# Altium footprint library PCB1_1.PcbLib: 64 footprints (part 4 of 4)
Each footprint in its own frame and in the unit in brackets; x right, y up, seen from the top. Pads: shape width x height; smd on the part's side, far side on the other; paste and mask are expansions set on the pad; w line width, h text height; cw(c..) or ccw(c..) is an arc to the next point about the centre after c.
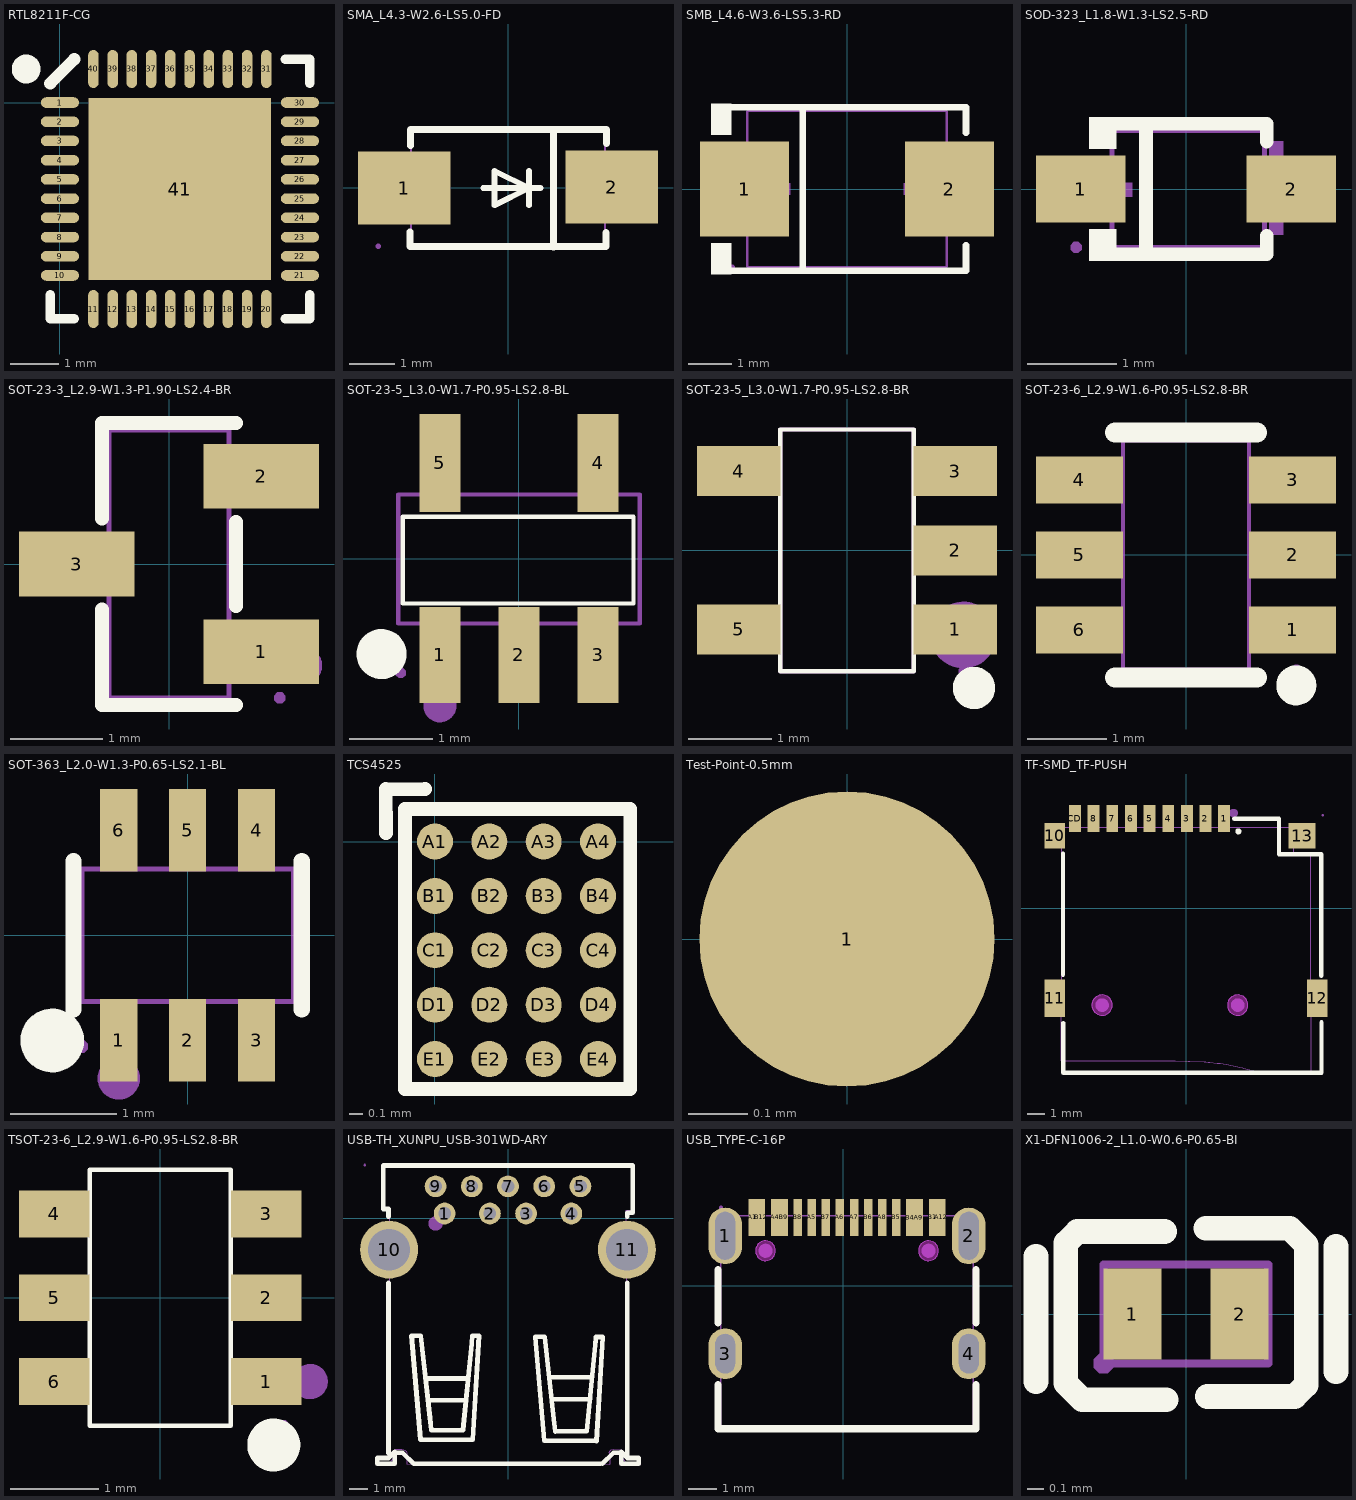
[diagram p3: the footprints below, top view; thin cyan lines are the x and y axes]

## RTL8211F-CG [mm]
pads (41):
  oval 0.794x0.22 smd: 1(0,0) 2(0,-0.401) 3(0,-0.8) 4(0,-1.201) 5(0,-1.6) 6(0,-2.002) 7(0,-2.4) 8(0,-2.802) 9(0,-3.2) 10(0,-3.602) 21(4.999,-3.602) 22(4.999,-3.2) 23(4.999,-2.802) 24(4.999,-2.4) 25(4.999,-2.002) 26(4.999,-1.6) 27(4.999,-1.201) 28(4.999,-0.8) 29(4.999,-0.401) 30(4.999,0)
  oval 0.22x0.794 smd: 11(0.699,-4.3) 12(1.1,-4.3) 13(1.499,-4.3) 14(1.9,-4.3) 15(2.299,-4.3) 16(2.7,-4.3) 17(3.099,-4.3) 18(3.5,-4.3) 19(3.899,-4.3) 20(4.3,-4.3) 31(4.3,0.698) 32(3.899,0.698) 33(3.5,0.698) 34(3.099,0.698) 35(2.7,0.698) 36(2.299,0.698) 37(1.9,0.698) 38(1.499,0.698) 39(1.1,0.698) 40(0.699,0.698)
  rect 3.8x3.8 smd: 41(2.499,-1.801)
Top Overlay:
  lines w0.2: -0.201,-4.001 -0.201,-4.501 0.299,-4.501 ; 4.699,-4.501 5.199,-4.501 5.199,-4.001 ; 4.699,0.899 5.199,0.899 5.199,0.399
  lines w0.254: -0.201,0.399 0.299,0.899
  lines w0.3: -0.551,0.696 cw(c-0.701,0.697) -0.551,0.698
Top Paste:
  region: 2.199,-1.601 2.199,-1.101 2.699,-1.101 2.699,-1.601
  region: 2.199,-2.401 2.199,-1.901 2.699,-1.901 2.699,-2.401
  region: 1.399,-1.601 1.399,-1.101 1.899,-1.101 1.899,-1.601
  region: 1.399,-2.401 1.399,-1.901 1.899,-1.901 1.899,-2.401
  region: 1.399,-0.801 1.399,-0.301 1.899,-0.301 1.899,-0.801
  region: 2.199,-0.801 2.199,-0.301 2.699,-0.301 2.699,-0.801
  region: 2.999,-0.801 2.999,-0.301 3.499,-0.301 3.499,-0.801
  region: 2.999,-1.601 2.999,-1.101 3.499,-1.101 3.499,-1.601
  region: 2.999,-2.401 2.999,-1.901 3.499,-1.901 3.499,-2.401
Mechanical 13:
  lines w0.013: 2.672,-1.775 2.723,-1.826
3D body "WQFN-40_L5.0-W5.0-P0.4-BL-EP.step": height 0.78, standoff 0.02, extent -0.011,-4.311 5.009,0.709

## SMA_L4.3-W2.6-LS5.0-FD [mm]
pads (2):
  rect 2.046x1.62 smd: 1(-2.304,-0.009) 2(2.304,0.009)
Top Overlay:
  lines w0.127: -0.551,-0.01 0.719,-0.01 ; 0.465,-0.391 0.465,-0.01 ; 0.465,0.371 0.465,-0.01 ; 0.465,-0.01 -0.297,0.371 -0.297,-0.01 -0.297,-0.391 0.465,-0.01
  lines w0.152: -2.17,-0.979 -2.17,-1.309 2.177,-1.309 2.177,-0.998 ; -2.16,0.93 -2.16,1.288 2.186,1.288 2.186,0.977 ; 1.007,-1.321 1.007,1.276
Mechanical 4:
  region: 2.432,0.097 2.432,-0.097 1.659,-0.097 1.659,0.097
  region: -2.432,0.097 -2.432,-0.097 -1.659,-0.097 -1.659,0.097
  region: -2.142,0.644 -2.142,-0.644 -1.949,-0.644 -1.949,0.644
Mechanical 5:
  lines w0.051: -2.15,-1.3 2.15,-1.3 2.15,1.3 -2.15,1.3 -2.15,-1.3
Mechanical 6:
  region: -2.879,-1.24 -2.854,-1.24 -2.819,-1.275 -2.819,-1.325 -2.854,-1.36 -2.879,-1.36 -2.904,-1.36 -2.939,-1.325 -2.939,-1.275 -2.904,-1.24 -2.879,-1.24
Mechanical 7:
  region: -2.5,-0.734 -2.5,0.716 -1.35,0.716 -1.35,-0.734
  region: 2.5,0.734 2.5,-0.716 1.35,-0.716 1.35,0.734
3D body "SMA.STEP": height 2.15, standoff 0.04, extent -2.548,-1.309 2.555,1.291

## SMB_L4.6-W3.6-LS5.3-RD [mil]
pads (2):
  rect 80.61x86.31 smd: 1(-92.94,0) 2(92.94,0)
Top Overlay:
  region: -105.02,77.26 -105.02,49.16 -123.02,49.16 -123.02,77.26
  region: -105.02,-77.26 -105.02,-49.16 -123.02,-49.16 -123.02,-77.26
  lines w5.98: -40,-74.26 -40,74.26
  lines w6: -108.02,-74.26 108.02,-74.26 108.02,-51.16 ; -108.02,74.26 108.02,74.26 108.02,51.16
Mechanical 4:
  region: -94.33,-5.34 -94.33,5.34 -51.58,5.34 -51.58,-5.34
  region: 94.33,-5.34 94.33,5.34 51.58,5.34 51.58,-5.34
  region: 78.3,-35.63 78.3,35.63 67.61,35.63 67.61,-35.63
Mechanical 5:
  lines w2: -90.55,-70.87 -90.55,70.87 90.55,70.87 90.55,-70.87 -90.55,-70.87
Mechanical 6:
  region: -106.67,-70.87 -106.67,-69.89 -105.29,-68.51 -103.33,-68.51 -101.95,-69.89 -101.95,-70.87 -101.95,-71.85 -103.33,-73.23 -105.29,-73.23 -106.67,-71.85 -106.67,-70.87
Mechanical 7:
  region: -104.31,-39.96 -104.31,39.96 -59.43,39.96 -59.43,-39.96
  region: 104.31,-39.96 104.31,39.96 59.43,39.96 59.43,-39.96
3D body "SMB.STEP": height 92.52, standoff 1.73, extent -104.4,-70.86 104.38,70.87

## SOD-323_L1.8-W1.3-LS2.5-RD [mm]
pads (2):
  rect 1x0.75 smd: 1(-1.173,0) 2(1.173,0)
Top Overlay:
  region: -0.775,0.802 -0.775,0.45 -1.08,0.45 -1.08,0.802
  region: -0.775,-0.802 -0.775,-0.45 -1.08,-0.45 -1.08,-0.802
  lines w0.152: -0.851,-0.726 0.901,-0.726 0.901,-0.52 ; -0.851,0.726 0.901,0.726 0.901,0.53 ; -0.447,-0.726 -0.447,0.726
Mechanical 4:
  region: -1.225,0.07 -1.225,-0.086 -0.601,-0.086 -0.601,0.07
  region: 1.315,0.09 1.315,-0.066 0.691,-0.066 0.691,0.09
  region: 1.083,0.53 1.083,-0.51 0.927,-0.51 0.927,0.53
Mechanical 5:
  lines w0.051: -0.825,-0.65 0.875,-0.65 0.875,0.65 -0.825,0.65 -0.825,-0.65
Mechanical 6:
  region: -1.285,-0.65 -1.285,-0.675 -1.25,-0.71 -1.2,-0.71 -1.165,-0.675 -1.165,-0.65 -1.165,-0.625 -1.2,-0.59 -1.25,-0.59 -1.285,-0.625 -1.285,-0.65
Mechanical 7:
  region: 1.275,0.16 1.275,-0.16 0.975,-0.16 0.975,0.16
  region: -0.925,0.16 -0.925,-0.16 -1.225,-0.16 -1.225,0.16
Mechanical 8:
  region: 0.985,0.16 0.985,-0.16 0.865,-0.16 0.865,0.16
  region: -0.815,0.16 -0.815,-0.16 -0.935,-0.16 -0.935,0.16
3D body "SOD-323.STEP": height 1, standoff 0.04, extent -1.324,-0.64 1.324,0.66

## SOT-23-3_L2.9-W1.3-P1.90-LS2.4-BR [mm]
pads (3):
  rect 1.25x0.7 smd paste+0 mask+0.051: 1(1,-0.95) 2(1,0.95) 3(-1,0)
Top Overlay:
  lines w0.152: -0.726,-0.495 -0.726,-1.526 0.726,-1.526 ; -0.726,0.495 -0.726,1.526 0.726,1.526 ; 0.726,-0.455 0.726,0.455
Mechanical 4:
  circle w0.2: c1.46,-1.1 r0.1
Mechanical 5:
  lines w0.051: -0.65,-1.45 -0.65,1.45 0.65,1.45 0.65,-1.45 -0.65,-1.45
Mechanical 6:
  region: 1.2,-1.51 1.225,-1.51 1.26,-1.475 1.26,-1.425 1.225,-1.39 1.2,-1.39 1.175,-1.39 1.14,-1.425 1.14,-1.475 1.175,-1.51 1.2,-1.51
Mechanical 7:
  region: 0.9,0.735 0.9,1.165 1.2,1.165 1.2,0.735
  region: 0.9,-1.165 0.9,-0.735 1.2,-0.735 1.2,-1.165
  region: -1.2,-0.215 -1.2,0.215 -0.9,0.215 -0.9,-0.215
Mechanical 8:
  region: 0.64,0.735 0.64,1.165 0.91,1.165 0.91,0.735
  region: 0.64,-1.165 0.64,-0.735 0.91,-0.735 0.91,-1.165
  region: -0.91,-0.215 -0.91,0.215 -0.64,0.215 -0.64,-0.215
3D body "SOT23-3.STEP": height 1.05, standoff 0, extent -1.2,-1.5 1.2,1.5

## SOT-23-5_L3.0-W1.7-P0.95-LS2.8-BL [mm]
pads (5):
  rect 0.49x1.157 smd paste+0 mask+0.051: 1(-0.95,-1.154) 2(0,-1.154) 3(0.95,-1.154)
  rect 0.49x1.175 smd paste+0 mask+0.051: 4(0.95,1.154) 5(-0.95,1.154)
Top Overlay:
  circle w0.3: c-1.651,-1.143 r0.15
  lines w0.051: -1.397,-0.534 1.376,-0.534 1.376,0.508 -1.397,0.508 -1.397,-0.534
Mechanical 4:
  circle w0.2: c-0.95,-1.763 r0.1
Mechanical 5:
  lines w0.051: -1.45,-0.775 1.45,-0.775 1.45,0.775 -1.45,0.775 -1.45,-0.775
Mechanical 6:
  region: -1.36,-1.37 -1.36,-1.395 -1.395,-1.43 -1.445,-1.43 -1.48,-1.395 -1.48,-1.37 -1.48,-1.345 -1.445,-1.31 -1.395,-1.31 -1.36,-1.345 -1.36,-1.37
Mechanical 7:
  region: -1.125,1 -1.125,1.4 -0.775,1.4 -0.775,1
  region: 0.775,1 0.775,1.4 1.125,1.4 1.125,1
  region: 0.775,-1.4 0.775,-1 1.125,-1 1.125,-1.4
  region: -0.175,-1.4 -0.175,-1 0.175,-1 0.175,-1.4
  region: -1.125,-1.4 -1.125,-1 -0.775,-1 -0.775,-1.4
Mechanical 8:
  region: -1.125,0.74 -1.125,1.01 -0.775,1.01 -0.775,0.74
  region: 0.775,0.74 0.775,1.01 1.125,1.01 1.125,0.74
  region: 0.775,-1.01 0.775,-0.74 1.125,-0.74 1.125,-1.01
  region: -0.175,-1.01 -0.175,-0.74 0.175,-0.74 0.175,-1.01
  region: -1.125,-1.01 -1.125,-0.74 -0.775,-0.74 -0.775,-1.01
3D body "SOT23-5.STEP": height 1.15, standoff -0.03, extent -1.5,-1.403 1.5,1.403

## SOT-23-5_L3.0-W1.7-P0.95-LS2.8-BR [mm]
pads (5):
  rect 1x0.6 smd paste+0 mask+0.051: 1(1.3,-0.95) 2(1.3,0) 3(1.3,0.95) 4(-1.3,0.95) 5(-1.3,-0.95)
Top Overlay:
  circle w0.254: c1.524,-1.651 r0.127
  lines w0.051: -0.8,-1.45 0.8,-1.45 0.8,1.45 -0.8,1.45 -0.8,-1.45
Mechanical 4:
  circle w0.4: c1.397,-1.016 r0.2
Mechanical 5:
  lines w0.051: -0.8,-1.45 0.8,-1.45 0.8,1.45 -0.8,1.45 -0.8,-1.45
Mechanical 6:
  region: 1.46,-1.45 1.46,-1.475 1.425,-1.51 1.375,-1.51 1.34,-1.475 1.34,-1.45 1.34,-1.425 1.375,-1.39 1.425,-1.39 1.46,-1.425 1.46,-1.45
Mechanical 7:
  region: 0.95,-1.15 0.95,-0.75 1.4,-0.75 1.4,-1.15
  region: 0.95,-0.2 0.95,0.2 1.4,0.2 1.4,-0.2
  region: 0.95,0.75 0.95,1.15 1.4,1.15 1.4,0.75
  region: -1.4,0.75 -1.4,1.15 -0.95,1.15 -0.95,0.75
  region: -1.4,-1.15 -1.4,-0.75 -0.95,-0.75 -0.95,-1.15
Mechanical 8:
  region: 0.79,-1.15 0.79,-0.75 0.96,-0.75 0.96,-1.15
  region: 0.79,-0.2 0.79,0.2 0.96,0.2 0.96,-0.2
  region: 0.79,0.75 0.79,1.15 0.96,1.15 0.96,0.75
  region: -0.96,0.75 -0.96,1.15 -0.79,1.15 -0.79,0.75
  region: -0.96,-1.15 -0.96,-0.75 -0.79,-0.75 -0.79,-1.15
3D body "SOT23-5.STEP": height 1.15, standoff -0.03, extent -1.403,-1.5 1.403,1.5

## SOT-23-6_L2.9-W1.6-P0.95-LS2.8-BR [mm]
pads (6):
  rect 1.1x0.6 smd paste+0 mask+0.051: 1(1.35,-0.95) 2(1.35,0) 3(1.35,0.95) 4(-1.35,0.95) 5(-1.35,0) 6(-1.35,-0.95)
Top Overlay:
  circle w0.254: c1.397,-1.651 r0.127
  lines w0.254: -0.9,-1.55 0.9,-1.55 ; -0.9,1.55 0.9,1.55
Mechanical 4:
  circle w0.2: c1.4,-0.95 r0.1
Mechanical 5:
  lines w0.051: -0.8,-1.45 -0.8,1.45 0.8,1.45 0.8,-1.45 -0.8,-1.45
Mechanical 6:
  region: 1.34,-1.45 1.34,-1.425 1.375,-1.39 1.425,-1.39 1.46,-1.425 1.46,-1.45 1.46,-1.475 1.425,-1.51 1.375,-1.51 1.34,-1.475 1.34,-1.45
Mechanical 7:
  region: -0.925,-1.165 -0.925,-0.735 -1.4,-0.735 -1.4,-1.165
  region: -0.925,-0.215 -0.925,0.215 -1.4,0.215 -1.4,-0.215
  region: -0.925,0.735 -0.925,1.165 -1.4,1.165 -1.4,0.735
  region: 0.925,0.735 0.925,1.165 1.4,1.165 1.4,0.735
  region: 0.925,-0.215 0.925,0.215 1.4,0.215 1.4,-0.215
  region: 0.925,-1.165 0.925,-0.735 1.4,-0.735 1.4,-1.165
Mechanical 8:
  region: -0.935,0.735 -0.935,1.165 -0.79,1.165 -0.79,0.735
  region: -0.935,-0.215 -0.935,0.215 -0.79,0.215 -0.79,-0.215
  region: -0.935,-1.165 -0.935,-0.735 -0.79,-0.735 -0.79,-1.165
  region: 0.935,-0.735 0.935,-1.165 0.79,-1.165 0.79,-0.735
  region: 0.935,0.215 0.935,-0.215 0.79,-0.215 0.79,0.215
  region: 0.935,1.165 0.935,0.735 0.79,0.735 0.79,1.165
3D body "sot236.step": height 1, standoff 0, extent -1.17,-1.46 1.17,1.46

## SOT-363_L2.0-W1.3-P0.65-LS2.1-BL [mm]
pads (6):
  rect 0.35x0.78 smd: 1(-0.65,-0.99) 2(0,-0.99) 3(0.65,-0.99) 4(0.65,0.99) 5(0,0.99) 6(-0.65,0.99)
Top Overlay:
  circle w0.3: c-1.277,-0.992 r0.15
  lines w0.152: -1.076,-0.701 -1.076,0.701 ; 1.076,-0.701 1.076,0.701
Mechanical 4:
  circle w0.2: c-0.65,-1.35 r0.1
Mechanical 5:
  lines w0.051: -1,-0.625 1,-0.625 1,0.625 -1,0.625 -1,-0.625
Mechanical 6:
  region: -1,-0.99 -0.975,-0.99 -0.94,-1.025 -0.94,-1.075 -0.975,-1.11 -1,-1.11 -1.025,-1.11 -1.06,-1.075 -1.06,-1.025 -1.025,-0.99 -1,-0.99
Mechanical 7:
  region: -0.775,-0.75 -0.525,-0.75 -0.525,-1.05 -0.775,-1.05
  region: -0.125,-0.75 0.125,-0.75 0.125,-1.05 -0.125,-1.05
  region: 0.525,-0.75 0.775,-0.75 0.775,-1.05 0.525,-1.05
  region: 0.525,0.75 0.775,0.75 0.775,1.05 0.525,1.05
  region: -0.125,0.75 0.125,0.75 0.125,1.05 -0.125,1.05
  region: -0.775,0.75 -0.525,0.75 -0.525,1.05 -0.775,1.05
Mechanical 8:
  region: -0.775,-0.615 -0.525,-0.615 -0.525,-0.76 -0.775,-0.76
  region: -0.125,-0.615 0.125,-0.615 0.125,-0.76 -0.125,-0.76
  region: 0.525,-0.615 0.775,-0.615 0.775,-0.76 0.525,-0.76
  region: 0.525,0.76 0.775,0.76 0.775,0.615 0.525,0.615
  region: -0.125,0.76 0.125,0.76 0.125,0.615 -0.125,0.615
  region: -0.775,0.76 -0.525,0.76 -0.525,0.615 -0.775,0.615
3D body "SOT-363_L2.1-W1.3-P0.65-LS2.2-BL.step": height 0.4, standoff -0.55, extent -1.025,-1.1 1.025,1.1

## TCS4525 [mm]
pads (20):
  round 0.265 smd: A1(0,0) A2(0.4,0) A3(0.8,0) A4(1.2,0) B1(0,-0.4) B2(0.4,-0.4) B3(0.8,-0.4) B4(1.2,-0.4) C1(0,-0.8) C2(0.4,-0.8) C3(0.8,-0.8) C4(1.2,-0.8) D1(0,-1.2) D2(0.4,-1.2) D3(0.8,-1.2) D4(1.2,-1.2) E1(0,-1.6) E2(0.4,-1.6) E3(0.8,-1.6) E4(1.2,-1.6)
Top Overlay:
  lines w0.102: -0.361,0.387 -0.361,0.064 ; -0.346,0.385 -0.074,0.387 ; -0.221,-1.817 -0.221,-1.82 ; 1.437,0.237 1.437,0.24 ; -0.221,-1.82 -0.221,0.24 1.437,0.24 ; -0.221,-1.82 1.437,-1.82 1.437,0.24
3D body "DSBGA-20_L2.1-W1.7-R4-C5-P0.40-BL.step": height 0.43, standoff -0.18, extent -0.242,-1.82 1.458,0.24

## Test-Point-0.5mm [mm]
pads (1):
  round 0.5 smd: 1(0,0)

## TF-SMD_TF-PUSH [mm]
pads (13):
  rect 0.7x1.6 smd: 1(2.25,5.3) 2(1.15,5.3) 3(0.05,5.3) 4(-1.05,5.3) 5(-2.15,5.3) 6(-3.25,5.3) 7(-4.35,5.3) 8(-5.45,5.3) CD(-6.55,5.3)
  rect 1.2x1.5 smd: 10(-7.75,4.3)
  rect 1.2x2.2 smd: 11(-7.75,-5.3) 12(7.75,-5.3)
  rect 1.6x1.5 smd: 13(6.85,4.3)
Top Overlay:
  circle w0.254: c3.087,4.552 r0.052
  lines w0.254: -7.26,-3.91 -7.26,3.25 ; -7.24,-6.76 -7.24,-9.7 8,-9.7 8,-6.71 ; 2.85,5.3 4.702,5.3 5.489,5.3 5.489,3.199 5.5,3.2 ; 5.49,3.2 7.98,3.2 7.98,-3.969
Keep-Out Layer:
  board cut-out: 3.65,-5.7 3.65,-5.819 3.559,-6.04 3.39,-6.209 3.169,-6.3 2.931,-6.3 2.71,-6.209 2.541,-6.04 2.45,-5.819 2.45,-5.7 2.45,-5.581 2.541,-5.36 2.71,-5.191 2.931,-5.1 3.169,-5.1 3.39,-5.191 3.559,-5.36 3.65,-5.581 3.65,-5.7
  board cut-out: -4.35,-5.7 -4.35,-5.819 -4.441,-6.04 -4.61,-6.209 -4.831,-6.3 -5.069,-6.3 -5.29,-6.209 -5.459,-6.04 -5.55,-5.819 -5.55,-5.7 -5.55,-5.581 -5.459,-5.36 -5.29,-5.191 -5.069,-5.1 -4.831,-5.1 -4.61,-5.191 -4.441,-5.36 -4.35,-5.581 -4.35,-5.7
Keep-Out Layer:
  circle w0.003: c3.05,-5.7 r0.6
  circle w0.003: c-4.95,-5.7 r0.6
  region: 3.65,-5.7 3.641,-5.804 3.614,-5.905 3.57,-6 3.51,-6.086 3.436,-6.16 3.35,-6.22 3.255,-6.264 3.154,-6.291 3.05,-6.3 2.946,-6.291 2.845,-6.264 2.75,-6.22 2.664,-6.16 2.59,-6.086 2.53,-6 2.486,-5.905 2.459,-5.804 2.45,-5.7 2.459,-5.596 2.486,-5.495 2.53,-5.4 2.59,-5.314 2.664,-5.24 2.75,-5.18 2.845,-5.136 2.946,-5.109 3.05,-5.1 3.154,-5.109 3.255,-5.136 3.35,-5.18 3.436,-5.24 3.51,-5.314 3.57,-5.4 3.614,-5.495 3.641,-5.596
  region: 3.65,-5.7 3.65,-5.819 3.559,-6.04 3.39,-6.209 3.169,-6.3 2.931,-6.3 2.71,-6.209 2.541,-6.04 2.45,-5.819 2.45,-5.7 2.45,-5.581 2.541,-5.36 2.71,-5.191 2.931,-5.1 3.169,-5.1 3.39,-5.191 3.559,-5.36 3.65,-5.581 3.65,-5.7
  region: -4.35,-5.7 -4.359,-5.804 -4.386,-5.905 -4.43,-6 -4.49,-6.086 -4.564,-6.16 -4.65,-6.22 -4.745,-6.264 -4.846,-6.291 -4.95,-6.3 -5.054,-6.291 -5.155,-6.264 -5.25,-6.22 -5.336,-6.16 -5.41,-6.086 -5.47,-6 -5.514,-5.905 -5.541,-5.804 -5.55,-5.7 -5.541,-5.596 -5.514,-5.495 -5.47,-5.4 -5.41,-5.314 -5.336,-5.24 -5.25,-5.18 -5.155,-5.136 -5.054,-5.109 -4.95,-5.1 -4.846,-5.109 -4.745,-5.136 -4.65,-5.18 -4.564,-5.24 -4.49,-5.314 -4.43,-5.4 -4.386,-5.495 -4.359,-5.596
  region: -4.35,-5.7 -4.35,-5.819 -4.441,-6.04 -4.61,-6.209 -4.831,-6.3 -5.069,-6.3 -5.29,-6.209 -5.459,-6.04 -5.55,-5.819 -5.55,-5.7 -5.55,-5.581 -5.459,-5.36 -5.29,-5.191 -5.069,-5.1 -4.831,-5.1 -4.61,-5.191 -4.441,-5.36 -4.35,-5.581 -4.35,-5.7
Mechanical 1:
  circle w0.003: c3.05,-5.7 r0.6
  circle w0.003: c-4.95,-5.7 r0.6
Mechanical 4:
  circle w0.254: c2.81,5.63 r0.127
  circle w0.4: c-4.95,-5.7 r0.2
  circle w0.4: c3.05,-5.7 r0.2
Mechanical 5:
  lines w0.051: -8.07,4.806 7.181,4.806 ; -8.07,4.806 -8.07,4.806 ; -8.07,4.806 -8.07,3.806 -7.37,3.806 -7.37,-4.494 -8.07,-4.494 -8.07,-6.094 -7.37,-6.094 -7.37,-8.994 -6.352,-8.995 -2.476,-8.986 -1.695,-8.99 -0.648,-8.989 0.138,-8.999 0.232,-9.003 1.09,-9.042 1.163,-9.05 1.308,-9.069 1.414,-9.075 1.841,-9.121 2.012,-9.136 2.38,-9.204 3.048,-9.34 3.176,-9.371 3.348,-9.403 3.411,-9.421 3.876,-9.552 4.14,-9.628 4.388,-9.695 4.389,-9.694 7.379,-9.694 7.38,-9.693 7.38,-6.094 8.07,-6.094 ; 7.181,4.806 7.181,3.806 7.181,3.806 6.33,3.806 6.33,3.306 7.229,3.306 7.229,3.206 7.37,3.206 7.37,-4.494 7.37,-4.494 8.069,-4.494 8.07,-4.495 8.07,-6.094 ; 7.181,4.806 7.181,4.806 ; 8.07,-6.094 8.07,-6.094
Mechanical 6:
  region: 8.13,5.505 8.13,5.48 8.095,5.445 8.045,5.445 8.01,5.48 8.01,5.505 8.01,5.53 8.045,5.565 8.095,5.565 8.13,5.53 8.13,5.505
Mechanical 7:
  region: 8.069,-6.092 8.068,-4.492 7.369,-4.492 7.369,-6.091 7.429,-6.091
  region: -7.369,-6.094 -7.37,-4.494 -8.069,-4.494 -8.069,-6.094 -8.009,-6.094
  region: 6.481,3.805 7.181,3.805 7.181,4.805 6.494,4.805 6.469,4.806 6.472,4.752 6.473,4.671 6.474,4.498
  region: -7.37,3.806 -8.069,3.806 -8.07,4.806 -7.383,4.806 -7.382,4.805 -7.384,4.498
  region: 2.1,5.505 2.4,5.505 2.4,4.805 2.1,4.805
  region: 1,5.505 1.3,5.505 1.3,4.805 1,4.805
  region: -0.1,5.505 0.2,5.505 0.2,4.805 -0.1,4.805
  region: -1.2,5.505 -0.9,5.505 -0.9,4.805 -1.2,4.805
  region: -2.3,5.505 -2,5.505 -2,4.805 -2.3,4.805
  region: -3.4,5.505 -3.1,5.505 -3.1,4.805 -3.4,4.805
  region: -4.5,5.505 -4.2,5.505 -4.2,4.805 -4.5,4.805
  region: -5.6,5.505 -5.3,5.505 -5.3,4.805 -5.6,4.805
  region: -6.7,5.505 -6.4,5.505 -6.4,4.805 -6.7,4.805
3D body "TF-SMD_TF-PUSH.step": height 2.05, standoff -0.6, extent -8.001,-9.632 8.149,5.568

## TSOT-23-6_L2.9-W1.6-P0.95-LS2.8-BR [mm]
pads (6):
  rect 0.8x0.532 smd paste+0 mask+0.051: 1(1.2,-0.95) 2(1.2,0) 3(1.2,0.95) 4(-1.2,0.95) 5(-1.2,0) 6(-1.2,-0.95)
Top Overlay:
  circle w0.3: c1.287,-1.669 r0.15
  lines w0.051: -0.8,-1.45 0.8,-1.45 0.8,1.45 -0.8,1.45 -0.8,-1.45
Mechanical 4:
  circle w0.2: c1.7,-0.95 r0.1
Mechanical 6:
  region: 1.34,-1.45 1.34,-1.425 1.375,-1.39 1.425,-1.39 1.46,-1.425 1.46,-1.45 1.46,-1.475 1.425,-1.51 1.375,-1.51 1.34,-1.475 1.34,-1.45
Mechanical 7:
  region: -0.95,-1.15 -0.95,-0.75 -1.4,-0.75 -1.4,-1.15
  region: -0.95,-0.2 -0.95,0.2 -1.4,0.2 -1.4,-0.2
  region: -0.95,0.75 -0.95,1.15 -1.4,1.15 -1.4,0.75
  region: 0.95,0.75 0.95,1.15 1.4,1.15 1.4,0.75
  region: 0.95,-0.2 0.95,0.2 1.4,0.2 1.4,-0.2
  region: 0.95,-1.15 0.95,-0.75 1.4,-0.75 1.4,-1.15
Mechanical 8:
  region: -0.96,-1.15 -0.96,-0.75 -0.79,-0.75 -0.79,-1.15
  region: -0.96,-0.2 -0.96,0.2 -0.79,0.2 -0.79,-0.2
  region: -0.96,0.75 -0.96,1.15 -0.79,1.15 -0.79,0.75
  region: 0.79,0.75 0.79,1.15 0.96,1.15 0.96,0.75
  region: 0.79,-0.2 0.79,0.2 0.96,0.2 0.96,-0.2
  region: 0.79,-1.15 0.79,-0.75 0.96,-0.75 0.96,-1.15
3D body "SOT-23-6_L2.9-W1.6-P0.95-LS2.8-BL-1.step": height 1.25, standoff -0.1, extent -1.4,-1.45 1.4,1.45

## USB-TH_XUNPU_USB-301WD-ARY [mm]
pads (11):
  round 1.2 hole 0.7 paste+0 mask+0.05: 1(-3.5,0.25) 2(-1,0.25) 3(1,0.25) 4(3.5,0.25) 5(4,1.75) 6(2,1.75) 7(0,1.75) 8(-2,1.75) 9(-4,1.75)
  round 3.2 hole 2.3 paste+0 mask+0.05: 10(-6.57,-1.75) 11(6.57,-1.75)
Top Overlay:
  lines w0.254: -6.6,-13 -6.6,-3.581 ; -6.6,0.081 -6.6,0.5 -6.9,0.5 -6.9,2.9 6.9,2.9 6.9,0.3 6.583,0.3 6.583,0.081 ; -6.25,-12.917 -6.583,-13.25 -7.225,-13.25 -7.225,-13.58 -6.25,-13.58 -6.25,-12.953 -5.828,-12.953 -5.201,-13.58 5.1,-13.58 ; -4.491,-8.863 -2.23,-8.863 ; -4.351,-10.073 -2.321,-10.073 ; 2.359,-8.793 4.619,-8.793 ; 2.499,-10.003 4.529,-10.003 ; 5.201,-13.58 5.828,-12.953 6.25,-12.953 6.25,-13.58 7.225,-13.58 7.225,-13.25 6.583,-13.25 ; 6.25,-12.917 6.583,-13.25 ; 6.583,-3.581 6.583,-13.25 ; -5.328,-6.497 -4.833,-12.232 -1.95,-12.243 -1.6,-6.5 -1.98,-6.5 -2.01,-6.93 -2.484,-11.708 -4.234,-11.719 -4.309,-11.041 -4.819,-6.5 -5.328,-6.497 ; 1.511,-6.566 2.006,-12.301 4.889,-12.312 5.239,-6.57 4.859,-6.57 4.829,-7 4.355,-11.778 2.605,-11.788 2.53,-11.11 2.02,-6.57 1.511,-6.566
Mechanical 4:
  circle w0.4: c-4,-0.3 r0.2
Mechanical 5:
  lines w0.051: -7.911,-1.042 -7.906,-2.444 -6.542,-2.636 -6.545,-12.986 -6.604,-13.145 -6.777,-13.269 -7.301,-13.28 -7.287,-13.581 -6.846,-13.581 -6.668,-13.555 -6.501,-13.475 -6.392,-13.359 -6.321,-13.258 -6.247,-13.045 -6.249,-12.779 -5.862,-12.777 -5.744,-12.786 -5.692,-12.821 -5.625,-12.886 -5.596,-12.977 -5.59,-13.571 5.606,-13.583 5.595,-12.974 5.631,-12.88 5.7,-12.809 5.806,-12.776 6.253,-12.783 6.256,-13.012 6.299,-13.22 6.39,-13.36 6.487,-13.467 6.578,-13.53 6.677,-13.553 6.84,-13.581 7.3,-13.583 7.292,-13.284 6.98,-13.279 6.802,-13.279 6.69,-13.23 6.614,-13.174 6.55,-13.007 6.555,-2.656 7.891,-2.458 7.877,-1.047 6.541,-0.873 6.541,0.425 6.908,0.42 6.913,2.918 -6.897,2.924 -6.911,0.401 -6.53,0.453 -6.537,-0.826 -7.911,-1.042
Mechanical 6:
  region: -7.851,2.924 -7.851,2.899 -7.886,2.864 -7.936,2.864 -7.971,2.899 -7.971,2.924 -7.971,2.949 -7.936,2.984 -7.886,2.984 -7.851,2.949 -7.851,2.924
Mechanical 7:
  region: -4.175,1.85 -3.825,1.85 -3.825,1.65 -4.175,1.65
  region: -2.175,1.85 -1.825,1.85 -1.825,1.65 -2.175,1.65
  region: -0.175,1.85 0.175,1.85 0.175,1.65 -0.175,1.65
  region: 1.825,1.85 2.175,1.85 2.175,1.65 1.825,1.65
  region: 3.825,1.85 4.175,1.85 4.175,1.65 3.825,1.65
  region: 3.325,0.35 3.675,0.35 3.675,0.15 3.325,0.15
  region: 0.825,0.35 1.175,0.35 1.175,0.15 0.825,0.15
  region: -1.175,0.35 -0.825,0.35 -0.825,0.15 -1.175,0.15
  region: -3.675,0.35 -3.325,0.35 -3.325,0.15 -3.675,0.15
  region: -6.72,-0.85 -6.42,-0.85 -6.42,-2.65 -6.72,-2.65
  region: 6.42,-0.85 6.72,-0.85 6.72,-2.65 6.42,-2.65
3D body "USB-TH_XUNPU_USB-301WD-ARY.step": height 7.94, standoff -3.01, extent -7.903,-13.607 7.903,2.893

## USB_TYPE-C-16P [mm]
pads (20):
  oval 1.2x2 hole 0.7 slot 1.7 at 90 deg paste+0 mask+0.051: 1(-4.193,1.765) 2(4.447,1.765)
  oval 1.2x1.8 hole 0.7 slot 1.4 at 90 deg paste+0 mask+0.051: 3(-4.193,-2.415) 4(4.447,-2.415)
  rect 0.3x1.3 smd paste-100 mask+0.05: A1(-3.223,2.415) A4(-2.423,2.415) A5(-1.123,2.415) A6(-0.123,2.415) A7(0.377,2.415) A8(1.377,2.415) A9(2.677,2.415) A12(3.477,2.415) B1(3.177,2.415) B4(2.377,2.415) B5(1.877,2.415) B6(0.877,2.415) B7(-0.623,2.415) B8(-1.623,2.415) B9(-2.123,2.415) B12(-2.923,2.415)
Top Overlay:
  lines w0.254: -4.445,-3.507 -4.445,-5.08 4.699,-5.08 4.699,-3.507 ; -4.445,-1.323 -4.445,0.573 ; 4.699,-1.323 4.699,0.573
Top Paste:
  drawing of 16 lines, arcs and shapes, not listed
Keep-Out Layer:
  board cut-out: -2.413,1.235 -2.413,1.165 -2.466,1.037 -2.565,0.938 -2.693,0.885 -2.833,0.885 -2.961,0.938 -3.06,1.037 -3.113,1.165 -3.113,1.235 -3.113,1.305 -3.06,1.433 -2.961,1.532 -2.833,1.585 -2.693,1.585 -2.565,1.532 -2.466,1.433 -2.413,1.305 -2.413,1.235
  board cut-out: 3.367,1.235 3.367,1.165 3.314,1.037 3.215,0.938 3.087,0.885 2.947,0.885 2.819,0.938 2.72,1.037 2.667,1.165 2.667,1.235 2.667,1.305 2.72,1.433 2.819,1.532 2.947,1.585 3.087,1.585 3.215,1.532 3.314,1.433 3.367,1.305 3.367,1.235
Keep-Out Layer:
  circle w0.003: c-2.763,1.235 r0.35
  circle w0.003: c3.017,1.235 r0.35
  region: -2.413,1.235 -2.413,1.165 -2.466,1.037 -2.565,0.938 -2.693,0.885 -2.833,0.885 -2.961,0.938 -3.06,1.037 -3.113,1.165 -3.113,1.235 -3.113,1.305 -3.06,1.433 -2.961,1.532 -2.833,1.585 -2.693,1.585 -2.565,1.532 -2.466,1.433 -2.413,1.305 -2.413,1.235
  region: -2.413,1.235 -2.422,1.157 -2.448,1.083 -2.489,1.017 -2.545,0.961 -2.611,0.92 -2.685,0.894 -2.763,0.885 -2.841,0.894 -2.915,0.92 -2.981,0.961 -3.037,1.017 -3.078,1.083 -3.104,1.157 -3.113,1.235 -3.104,1.313 -3.078,1.387 -3.037,1.453 -2.981,1.509 -2.915,1.55 -2.841,1.576 -2.763,1.585 -2.685,1.576 -2.611,1.55 -2.545,1.509 -2.489,1.453 -2.448,1.387 -2.422,1.313
  region: 3.367,1.235 3.367,1.165 3.314,1.037 3.215,0.938 3.087,0.885 2.947,0.885 2.819,0.938 2.72,1.037 2.667,1.165 2.667,1.235 2.667,1.305 2.72,1.433 2.819,1.532 2.947,1.585 3.087,1.585 3.215,1.532 3.314,1.433 3.367,1.305 3.367,1.235
  region: 3.367,1.235 3.358,1.157 3.332,1.083 3.291,1.017 3.235,0.961 3.169,0.92 3.095,0.894 3.017,0.885 2.939,0.894 2.865,0.92 2.799,0.961 2.743,1.017 2.702,1.083 2.676,1.157 2.667,1.235 2.676,1.313 2.702,1.387 2.743,1.453 2.799,1.509 2.865,1.55 2.939,1.576 3.017,1.585 3.095,1.576 3.169,1.55 3.235,1.509 3.291,1.453 3.332,1.387 3.358,1.313
Mechanical 1:
  circle w0.003: c-2.763,1.235 r0.35
  circle w0.003: c3.017,1.235 r0.35
Mechanical 4:
  circle w0.25: c-2.763,1.235 r0.125
  circle w0.25: c3.017,1.235 r0.125
Mechanical 5:
  lines w0.051: -4.343,-5.08 -4.343,2.47 4.597,2.47 4.597,-5.08 -4.343,-5.08
Mechanical 6:
  region: -4.283,2.77 -4.283,2.745 -4.318,2.71 -4.368,2.71 -4.403,2.745 -4.403,2.77 -4.403,2.795 -4.368,2.83 -4.318,2.83 -4.283,2.795 -4.283,2.77
Mechanical 7:
  region: -4.343,2.315 -4.043,2.315 -4.043,1.215 -4.343,1.215
  region: 4.297,2.315 4.597,2.315 4.597,1.215 4.297,1.215
  region: -4.343,-2.015 -4.043,-2.015 -4.043,-2.815 -4.343,-2.815
  region: 4.297,-2.015 4.597,-2.015 4.597,-2.815 4.297,-2.815
  region: 1.277,2.77 1.477,2.77 1.477,1.77 1.277,1.77
  region: 1.777,2.77 1.977,2.77 1.977,1.77 1.777,1.77
  region: 0.777,2.77 0.977,2.77 0.977,1.77 0.777,1.77
  region: 0.277,2.77 0.477,2.77 0.477,1.77 0.277,1.77
  region: -0.223,2.77 -0.023,2.77 -0.023,1.77 -0.223,1.77
  region: -0.723,2.77 -0.523,2.77 -0.523,1.77 -0.723,1.77
  region: -1.223,2.77 -1.023,2.77 -1.023,1.77 -1.223,1.77
  region: -1.723,2.77 -1.523,2.77 -1.523,1.77 -1.723,1.77
  region: -2.276,2.77 -2.076,2.77 -2.076,1.77 -2.276,1.77
  region: -2.475,2.77 -2.275,2.77 -2.275,1.77 -2.475,1.77
  region: -3.076,2.77 -2.876,2.77 -2.876,1.77 -3.076,1.77
  region: -3.275,2.77 -3.075,2.77 -3.075,1.77 -3.275,1.77
  region: 2.325,2.77 2.525,2.77 2.525,1.77 2.325,1.77
  region: 2.524,2.77 2.724,2.77 2.724,1.77 2.524,1.77
  region: 3.128,2.77 3.328,2.77 3.328,1.77 3.128,1.77
  region: 3.326,2.77 3.526,2.77 3.526,1.77 3.326,1.77
3D body "USB-C-SMD_TYPE-C-16PIN-2MD-073.step": height 3.23, standoff -0.93, extent -4.343,-4.988 4.597,2.592

## X1-DFN1006-2_L1.0-W0.6-P0.65-BI [mm]
pads (2):
  rect 0.35x0.55 smd: 1(-0.325,0) 2(0.325,0)
Top Overlay:
  lines w0.15: -0.91,-0.41 -0.91,0.35 ; -0.13,0.5 -0.66,0.5 -0.73,0.43 -0.73,0.32 -0.73,-0.42 -0.63,-0.52 -0.6,-0.52 -0.12,-0.52 ; 0.12,0.52 0.6,0.52 0.63,0.52 0.73,0.42 0.73,-0.32 0.73,-0.43 0.66,-0.5 0.13,-0.5 ; 0.91,-0.35 0.91,0.41
Mechanical 5:
  lines w0.051: -0.5,-0.3 0.5,-0.3 0.5,0.3 -0.5,0.3 -0.5,-0.3
Mechanical 6:
  region: -0.5,-0.24 -0.475,-0.24 -0.44,-0.275 -0.44,-0.325 -0.475,-0.36 -0.5,-0.36 -0.525,-0.36 -0.56,-0.325 -0.56,-0.275 -0.525,-0.24 -0.5,-0.24
Mechanical 7:
  region: 0.2,0.25 0.45,0.25 0.45,-0.25 0.2,-0.25
  region: -0.2,-0.25 -0.45,-0.25 -0.45,0.25 -0.2,0.25
3D body "DFN1006-2L-BI.step": height 0.48, standoff -0.01, extent -0.51,-0.3 0.51,0.32